# Altium integrated library TI Interface Isolator.IntLib: 140 symbols (part 5 of 6)
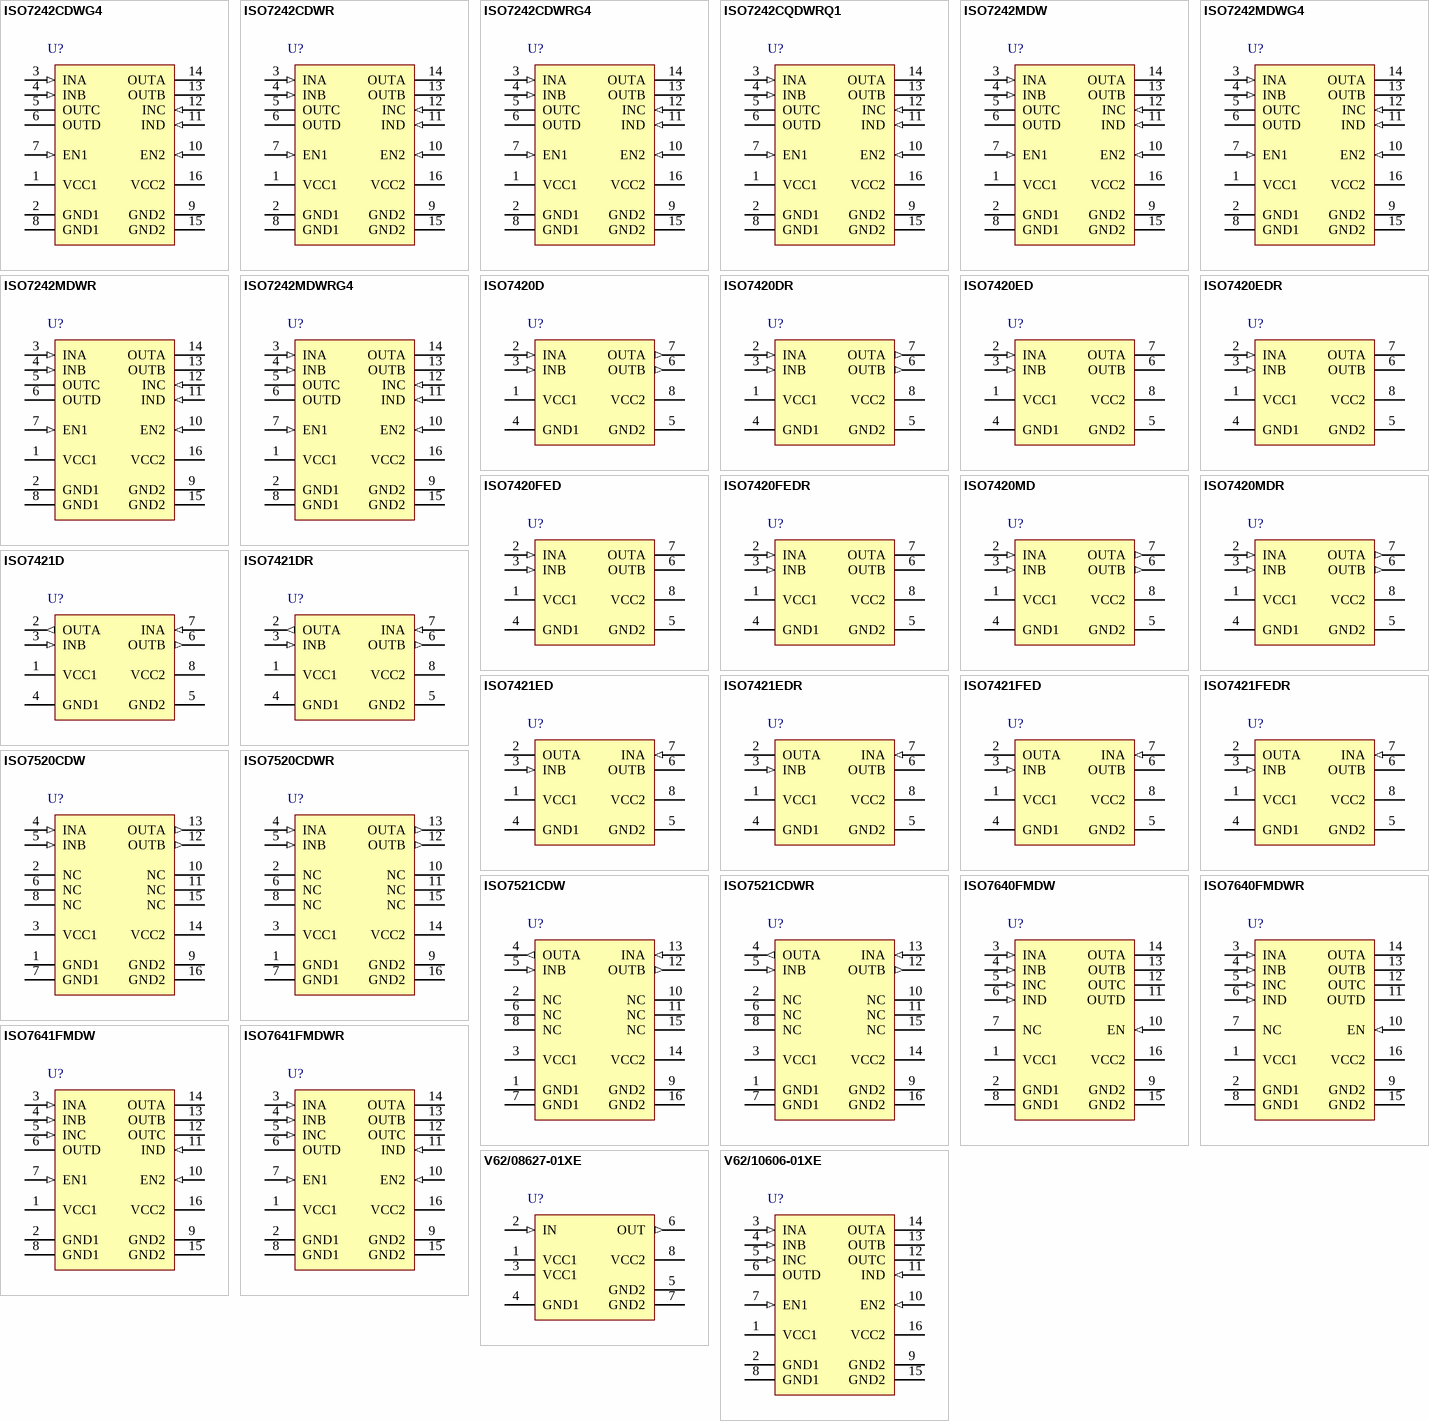
[diagram p7: symbols ISO7242CDWG4 to V62/10606-01XE]

## ISO7242CQDWRQ1
designator U?
25 Mbps Automotive Catalog Quad Channels, 2 / 2, Digital Isolator, -40 to +125 degC, 16-pin SOIC (DW), Green (RoHS & no Sb/Br); Manufacturer: Texas Instruments; PartNumber: ISO7242CQDWRQ1; Datarate(Mbps): 25; Input Noise Filter: Yes; Insulation Rating(VRMS): 2500; Prop Delay(Max)(ns): 42; Supply Voltage(s)(V): 3.3, 5; TTL/CMOS Input Threshold: TTL; DatasheetVersion: SLLSE40A; PackageVersion: 4040000-2/G, 01/2011; PackageReference: DW0016A; PackageDescription: 16-Pin Plastic Small Outline, Body 10.30 x 7.50 mm, Pitch 1.27 mm; Supplier 1: Digi-Key; Supplier Part Number 1: 296-36598-2-ND; Supplier 2: Digi-Key; Supplier Part Number 2: 296-36598-1-ND; Supplier 3: Digi-Key; Supplier Part Number 3: 296-36598-6-ND; Supplier 4: Mouser; Supplier Part Number 4: 595-ISO7242CQDWRQ1; Eco-Plan: Green (RoHS & no Sb/Br); Rating: Automotive; SubFamily: Isolator; Thermal Shutdown: No; MountType: SMT; Code_JEDEC: MS-013; ComponentLink1Description: Manufacturer URL; ComponentLink1URL: http://www.ti.com/; ComponentLink2Description: Datasheet; ComponentLink2URL: http://www.ti.com/general/docs/lit/getliterature.tsp?genericPartNumber=ISO7242C-Q1&fileType=pdf; ComponentLink3Description: Package Specification; ComponentLink3URL: http://www.ti.com/litv/pdf/msoi003g; ComponentLink4Description: SamplesURL; ComponentLink4URL: http://www.ti.com/product/iso7242c-q1#samples
footprint DW0016A_N (SOIC, 16-Leads, Body 10.5x7.6mm, Pitch 1.27mm, IPC Medium Density)
footprint DW0016A_L (SOIC, 16-Leads, Body 10.5x7.6mm, Pitch 1.27mm, IPC High Density)
footprint DW0016A_M (SOIC, 16-Leads, Body 10.5x7.6mm, Pitch 1.27mm, IPC Low Density)
pins: 1 VCC1 (power), 2 GND1 (power), 3 INA (in), 4 INB (in), 5 OUTC (hiz), 6 OUTD (hiz), 7 EN1 (in), 8 GND1 (power), 9 GND2 (power), 10 EN2 (in), 11 IND (in), 12 INC (in), 13 OUTB (hiz), 14 OUTA (hiz), 15 GND2 (power), 16 VCC2 (power)

## ISO7242MDW
designator U?
150 Mbps Quad Channels, 2 / 2, Digital Isolator, -40 to +125 degC, 16-pin SOIC (DW), Green (RoHS & no Sb/Br); Manufacturer: Texas Instruments; PartNumber: ISO7242MDW; Datarate(Mbps): 150; Input Noise Filter: None; Insulation Rating(VRMS): 2500; Prop Delay(Max)(ns): 22; Rating: Catalog; Supply Voltage(s)(V): 3.3, 5; TTL/CMOS Input Threshold: CMOS; DatasheetVersion: SLLS868N; PackageVersion: 4040000-2/G, 01/2011; PackageReference: DW0016A; PackageDescription: 16-Pin Plastic Small Outline, Body 10.30 x 7.50 mm, Pitch 1.27 mm; Supplier 1: Digi-Key; Supplier Part Number 1: 296-22967-5-ND; Supplier 2: Farnell; Supplier Part Number 2: 1755127; Supplier 3: Farnell; Supplier Part Number 3: 1575377; Supplier 4: Newark; Supplier Part Number 4: 73M3163; Supplier 5: Mouser; Supplier Part Number 5: 595-ISO7242MDW; Eco-Plan: Green (RoHS & no Sb/Br); SubFamily: Isolator; Thermal Shutdown: No; MountType: SMT; Code_JEDEC: MS-013; ComponentLink1Description: Manufacturer URL; ComponentLink1URL: http://www.ti.com/; ComponentLink2Description: Datasheet; ComponentLink2URL: http://www.ti.com/general/docs/lit/getliterature.tsp?genericPartNumber=ISO7242M&fileType=pdf; ComponentLink3Description: Package Specification; ComponentLink3URL: http://www.ti.com/litv/pdf/msoi003g; ComponentLink4Description: SamplesURL; ComponentLink4URL: http://www.ti.com/product/iso7242m#samples
footprint DW0016A_N (SOIC, 16-Leads, Body 10.5x7.6mm, Pitch 1.27mm, IPC Medium Density)
footprint DW0016A_L (SOIC, 16-Leads, Body 10.5x7.6mm, Pitch 1.27mm, IPC High Density)
footprint DW0016A_M (SOIC, 16-Leads, Body 10.5x7.6mm, Pitch 1.27mm, IPC Low Density)
pins: 1 VCC1 (power), 2 GND1 (power), 3 INA (in), 4 INB (in), 5 OUTC (hiz), 6 OUTD (hiz), 7 EN1 (in), 8 GND1 (power), 9 GND2 (power), 10 EN2 (in), 11 IND (in), 12 INC (in), 13 OUTB (hiz), 14 OUTA (hiz), 15 GND2 (power), 16 VCC2 (power)

## ISO7242MDWG4
designator U?
150 Mbps Quad Channels, 2 / 2, Digital Isolator, -40 to +125 degC, 16-pin SOIC (DW), Green (RoHS & no Sb/Br); Manufacturer: Texas Instruments; PartNumber: ISO7242MDWG4; Datarate(Mbps): 150; Input Noise Filter: None; Insulation Rating(VRMS): 2500; Prop Delay(Max)(ns): 22; Rating: Catalog; Supply Voltage(s)(V): 3.3, 5; TTL/CMOS Input Threshold: CMOS; DatasheetVersion: SLLS868N; PackageVersion: 4040000-2/G, 01/2011; PackageReference: DW0016A; PackageDescription: 16-Pin Plastic Small Outline, Body 10.30 x 7.50 mm, Pitch 1.27 mm; Supplier 1: Digi-Key; Supplier Part Number 1: ISO7242MDWG4-ND; Supplier 2: Mouser; Supplier Part Number 2: 595-ISO7242MDWG4; Eco-Plan: Green (RoHS & no Sb/Br); SubFamily: Isolator; Thermal Shutdown: No; MountType: SMT; Code_JEDEC: MS-013; ComponentLink1Description: Manufacturer URL; ComponentLink1URL: http://www.ti.com/; ComponentLink2Description: Datasheet; ComponentLink2URL: http://www.ti.com/general/docs/lit/getliterature.tsp?genericPartNumber=ISO7242M&fileType=pdf; ComponentLink3Description: Package Specification; ComponentLink3URL: http://www.ti.com/litv/pdf/msoi003g; ComponentLink4Description: SamplesURL; ComponentLink4URL: http://www.ti.com/product/iso7242m#samples
footprint DW0016A_N (SOIC, 16-Leads, Body 10.5x7.6mm, Pitch 1.27mm, IPC Medium Density)
footprint DW0016A_L (SOIC, 16-Leads, Body 10.5x7.6mm, Pitch 1.27mm, IPC High Density)
footprint DW0016A_M (SOIC, 16-Leads, Body 10.5x7.6mm, Pitch 1.27mm, IPC Low Density)
pins: 1 VCC1 (power), 2 GND1 (power), 3 INA (in), 4 INB (in), 5 OUTC (hiz), 6 OUTD (hiz), 7 EN1 (in), 8 GND1 (power), 9 GND2 (power), 10 EN2 (in), 11 IND (in), 12 INC (in), 13 OUTB (hiz), 14 OUTA (hiz), 15 GND2 (power), 16 VCC2 (power)

## ISO7242MDWR
designator U?
150 Mbps Quad Channels, 2 / 2, Digital Isolator, -40 to +125 degC, 16-pin SOIC (DW), Green (RoHS & no Sb/Br); Manufacturer: Texas Instruments; PartNumber: ISO7242MDWR; Datarate(Mbps): 150; Input Noise Filter: None; Insulation Rating(VRMS): 2500; Prop Delay(Max)(ns): 22; Rating: Catalog; Supply Voltage(s)(V): 3.3, 5; TTL/CMOS Input Threshold: CMOS; DatasheetVersion: SLLS868N; PackageVersion: 4040000-2/G, 01/2011; PackageReference: DW0016A; PackageDescription: 16-Pin Plastic Small Outline, Body 10.30 x 7.50 mm, Pitch 1.27 mm; Supplier 1: Digi-Key; Supplier Part Number 1: ISO7242MDWR-ND; Supplier 2: Newark; Supplier Part Number 2: 73M3164; Supplier 3: Mouser; Supplier Part Number 3: 595-ISO7242MDWR; Eco-Plan: Green (RoHS & no Sb/Br); SubFamily: Isolator; Thermal Shutdown: No; MountType: SMT; Code_JEDEC: MS-013; ComponentLink1Description: Manufacturer URL; ComponentLink1URL: http://www.ti.com/; ComponentLink2Description: Datasheet; ComponentLink2URL: http://www.ti.com/general/docs/lit/getliterature.tsp?genericPartNumber=ISO7242M&fileType=pdf; ComponentLink3Description: Package Specification; ComponentLink3URL: http://www.ti.com/litv/pdf/msoi003g; ComponentLink4Description: SamplesURL; ComponentLink4URL: http://www.ti.com/product/iso7242m#samples
footprint DW0016A_N (SOIC, 16-Leads, Body 10.5x7.6mm, Pitch 1.27mm, IPC Medium Density)
footprint DW0016A_L (SOIC, 16-Leads, Body 10.5x7.6mm, Pitch 1.27mm, IPC High Density)
footprint DW0016A_M (SOIC, 16-Leads, Body 10.5x7.6mm, Pitch 1.27mm, IPC Low Density)
pins: 1 VCC1 (power), 2 GND1 (power), 3 INA (in), 4 INB (in), 5 OUTC (hiz), 6 OUTD (hiz), 7 EN1 (in), 8 GND1 (power), 9 GND2 (power), 10 EN2 (in), 11 IND (in), 12 INC (in), 13 OUTB (hiz), 14 OUTA (hiz), 15 GND2 (power), 16 VCC2 (power)

## ISO7242MDWRG4
designator U?
150 Mbps Quad Channels, 2 / 2, Digital Isolator, -40 to +125 degC, 16-pin SOIC (DW), Green (RoHS & no Sb/Br); Manufacturer: Texas Instruments; PartNumber: ISO7242MDWRG4; Datarate(Mbps): 150; Input Noise Filter: None; Insulation Rating(VRMS): 2500; Prop Delay(Max)(ns): 22; Rating: Catalog; Supply Voltage(s)(V): 3.3, 5; TTL/CMOS Input Threshold: CMOS; DatasheetVersion: SLLS868N; PackageVersion: 4040000-2/G, 01/2011; PackageReference: DW0016A; PackageDescription: 16-Pin Plastic Small Outline, Body 10.30 x 7.50 mm, Pitch 1.27 mm; Supplier 1: Digi-Key; Supplier Part Number 1: ISO7242MDWRG4-ND; Supplier 2: Mouser; Supplier Part Number 2: 595-ISO7242MDWRG4; Eco-Plan: Green (RoHS & no Sb/Br); SubFamily: Isolator; Thermal Shutdown: No; MountType: SMT; Code_JEDEC: MS-013; ComponentLink1Description: Manufacturer URL; ComponentLink1URL: http://www.ti.com/; ComponentLink2Description: Datasheet; ComponentLink2URL: http://www.ti.com/general/docs/lit/getliterature.tsp?genericPartNumber=ISO7242M&fileType=pdf; ComponentLink3Description: Package Specification; ComponentLink3URL: http://www.ti.com/litv/pdf/msoi003g; ComponentLink4Description: SamplesURL; ComponentLink4URL: http://www.ti.com/product/iso7242m#samples
footprint DW0016A_N (SOIC, 16-Leads, Body 10.5x7.6mm, Pitch 1.27mm, IPC Medium Density)
footprint DW0016A_L (SOIC, 16-Leads, Body 10.5x7.6mm, Pitch 1.27mm, IPC High Density)
footprint DW0016A_M (SOIC, 16-Leads, Body 10.5x7.6mm, Pitch 1.27mm, IPC Low Density)
pins: 1 VCC1 (power), 2 GND1 (power), 3 INA (in), 4 INB (in), 5 OUTC (hiz), 6 OUTD (hiz), 7 EN1 (in), 8 GND1 (power), 9 GND2 (power), 10 EN2 (in), 11 IND (in), 12 INC (in), 13 OUTB (hiz), 14 OUTA (hiz), 15 GND2 (power), 16 VCC2 (power)

## ISO7420D
designator U?
1 Mbps Low Power Dual Channels Isolator, 3.3 V / 5 V, -40 to +105 degC, 8-pin SOIC (D), Green (RoHS & no Sb/Br); Manufacturer: Texas Instruments; PartNumber: ISO7420D; Datarate(Mbps): 1; Input Noise Filter: None; Insulation Rating(VRMS): 2500; Prop Delay(Max)(ns): 12; Rating: Catalog; Supply Voltage(s)(V): 3.3, 5; TTL/CMOS Input Threshold: TTL; DatasheetVersion: SLLS984E; PackageVersion: 4040047-3/M, 06/2011; PackageReference: D0008A; PackageDescription: 8-Pin Plastic Small Outline, Body 4.9 x 3.9 mm, Pitch 1.27 mm; Supplier 1: Digi-Key; Supplier Part Number 1: 296-25582-5-ND; Supplier 2: Farnell; Supplier Part Number 2: 1815728; Supplier 3: Newark; Supplier Part Number 3: 60R2413; Supplier 4: Mouser; Supplier Part Number 4: 595-ISO7420D; SubFamily: Isolator; Thermal Shutdown: No; MountType: SMT; Code_JEDEC: MS-012; ComponentLink1Description: Manufacturer URL; ComponentLink1URL: http://www.ti.com/; ComponentLink2Description: Datasheet; ComponentLink2URL: http://www.ti.com/general/docs/lit/getliterature.tsp?genericPartNumber=ISO7420&fileType=pdf; ComponentLink3Description: Package Specification; ComponentLink3URL: http://www.ti.com/litv/pdf/msoi002j; ComponentLink4Description: SamplesURL; ComponentLink4URL: http://www.ti.com/product/iso7420#samples
footprint D0008A_N (SOIC, 8-Leads, Body 5x4mm, Pitch 1.27mm, IPC Medium Density)
footprint D0008A_L (SOIC, 8-Leads, Body 5x4mm, Pitch 1.27mm, IPC High Density)
footprint D0008A_M (SOIC, 8-Leads, Body 5x4mm, Pitch 1.27mm, IPC Low Density)
pins: 1 VCC1 (power) "Power supply, VCC1", 2 INA (in) "Input, channel A", 3 INB (in) "Input, channel B", 4 GND1 (power) "Ground connection for VCC1", 5 GND2 (power) "Ground connection for VCC2", 6 OUTB (out) "Output, channel B", 7 OUTA (out) "Output, channel A", 8 VCC2 (power) "Power supply, VCC2"

## ISO7420DR
designator U?
1 Mbps Low Power Dual Channels Isolator, 3.3 V / 5 V, -40 to +105 degC, 8-pin SOIC (D), Green (RoHS & no Sb/Br); Manufacturer: Texas Instruments; PartNumber: ISO7420DR; Datarate(Mbps): 1; Input Noise Filter: None; Insulation Rating(VRMS): 2500; Prop Delay(Max)(ns): 12; Rating: Catalog; Supply Voltage(s)(V): 3.3, 5; TTL/CMOS Input Threshold: TTL; DatasheetVersion: SLLS984E; PackageVersion: 4040047-3/M, 06/2011; PackageReference: D0008A; PackageDescription: 8-Pin Plastic Small Outline, Body 4.9 x 3.9 mm, Pitch 1.27 mm; Supplier 1: Digi-Key; Supplier Part Number 1: ISO7420DR-ND; Supplier 2: Mouser; Supplier Part Number 2: 595-ISO7420DR; SubFamily: Isolator; Thermal Shutdown: No; MountType: SMT; Code_JEDEC: MS-012; ComponentLink1Description: Manufacturer URL; ComponentLink1URL: http://www.ti.com/; ComponentLink2Description: Datasheet; ComponentLink2URL: http://www.ti.com/general/docs/lit/getliterature.tsp?genericPartNumber=ISO7420&fileType=pdf; ComponentLink3Description: Package Specification; ComponentLink3URL: http://www.ti.com/litv/pdf/msoi002j; ComponentLink4Description: SamplesURL; ComponentLink4URL: http://www.ti.com/product/iso7420#samples
footprint D0008A_N (SOIC, 8-Leads, Body 5x4mm, Pitch 1.27mm, IPC Medium Density)
footprint D0008A_L (SOIC, 8-Leads, Body 5x4mm, Pitch 1.27mm, IPC High Density)
footprint D0008A_M (SOIC, 8-Leads, Body 5x4mm, Pitch 1.27mm, IPC Low Density)
pins: 1 VCC1 (power) "Power supply, VCC1", 2 INA (in) "Input, channel A", 3 INB (in) "Input, channel B", 4 GND1 (power) "Ground connection for VCC1", 5 GND2 (power) "Ground connection for VCC2", 6 OUTB (out) "Output, channel B", 7 OUTA (out) "Output, channel A", 8 VCC2 (power) "Power supply, VCC2"

## ISO7420ED
designator U?
50 Mbps Low-Power Dual Channels Digital Isolator, 3.3 V / 5 V, -40 to +125 degC, 8-pin SOIC (D), Green (RoHS & no Sb/Br); Manufacturer: Texas Instruments; PartNumber: ISO7420ED; Datarate(Mbps): 50; Input Noise Filter: None; Insulation Rating(VRMS): 2500; Prop Delay(Max)(ns): 11; Rating: Catalog; Supply Voltage(s)(V): 3.3, 5; TTL/CMOS Input Threshold: TTL; DatasheetVersion: SLLSE45D; PackageVersion: 4040047-3/M, 06/2011; PackageReference: D0008A; PackageDescription: 8-Pin Plastic Small Outline, Body 4.9 x 3.9 mm, Pitch 1.27 mm; Supplier 1: Digi-Key; Supplier Part Number 1: 296-28554-ND; Supplier 2: Mouser; Supplier Part Number 2: 595-ISO7420ED; SubFamily: Isolator; Thermal Shutdown: No; MountType: SMT; Code_JEDEC: MS-012; ComponentLink1Description: Manufacturer URL; ComponentLink1URL: http://www.ti.com/; ComponentLink2Description: Datasheet; ComponentLink2URL: http://www.ti.com/general/docs/lit/getliterature.tsp?genericPartNumber=ISO7420E&fileType=pdf; ComponentLink3Description: Package Specification; ComponentLink3URL: http://www.ti.com/litv/pdf/msoi002j; ComponentLink4Description: SamplesURL; ComponentLink4URL: http://www.ti.com/product/iso7420e#samples
footprint D0008A_N (SOIC, 8-Leads, Body 5x4mm, Pitch 1.27mm, IPC Medium Density)
footprint D0008A_L (SOIC, 8-Leads, Body 5x4mm, Pitch 1.27mm, IPC High Density)
footprint D0008A_M (SOIC, 8-Leads, Body 5x4mm, Pitch 1.27mm, IPC Low Density)
pins: 1 VCC1 (power) "Power supply, VCC1", 2 INA (in) "Input, channel A", 3 INB (in) "Input, channel B", 4 GND1 (power) "Ground connection for VCC1", 5 GND2 (power) "Ground connection for VCC2", 6 OUTB (hiz) "Output, channel A", 7 OUTA (hiz) "Output, channel B", 8 VCC2 (power) "Power supply, VCC2"

## ISO7420EDR
designator U?
50 Mbps Low-Power Dual Channels Digital Isolator, 3.3 V / 5 V, -40 to +125 degC, 8-pin SOIC (D), Green (RoHS & no Sb/Br); Manufacturer: Texas Instruments; PartNumber: ISO7420EDR; Datarate(Mbps): 50; Input Noise Filter: None; Insulation Rating(VRMS): 2500; Prop Delay(Max)(ns): 11; Rating: Catalog; Supply Voltage(s)(V): 3.3, 5; TTL/CMOS Input Threshold: TTL; DatasheetVersion: SLLSE45D; PackageVersion: 4040047-3/M, 06/2011; PackageReference: D0008A; PackageDescription: 8-Pin Plastic Small Outline, Body 4.9 x 3.9 mm, Pitch 1.27 mm; Supplier 1: Digi-Key; Supplier Part Number 1: ISO7420EDR-ND; Supplier 2: Mouser; Supplier Part Number 2: 595-ISO7420EDR; SubFamily: Isolator; Thermal Shutdown: No; MountType: SMT; Code_JEDEC: MS-012; ComponentLink1Description: Manufacturer URL; ComponentLink1URL: http://www.ti.com/; ComponentLink2Description: Datasheet; ComponentLink2URL: http://www.ti.com/general/docs/lit/getliterature.tsp?genericPartNumber=ISO7420E&fileType=pdf; ComponentLink3Description: Package Specification; ComponentLink3URL: http://www.ti.com/litv/pdf/msoi002j; ComponentLink4Description: SamplesURL; ComponentLink4URL: http://www.ti.com/product/iso7420e#samples
footprint D0008A_N (SOIC, 8-Leads, Body 5x4mm, Pitch 1.27mm, IPC Medium Density)
footprint D0008A_L (SOIC, 8-Leads, Body 5x4mm, Pitch 1.27mm, IPC High Density)
footprint D0008A_M (SOIC, 8-Leads, Body 5x4mm, Pitch 1.27mm, IPC Low Density)
pins: 1 VCC1 (power) "Power supply, VCC1", 2 INA (in) "Input, channel A", 3 INB (in) "Input, channel B", 4 GND1 (power) "Ground connection for VCC1", 5 GND2 (power) "Ground connection for VCC2", 6 OUTB (hiz) "Output, channel A", 7 OUTA (hiz) "Output, channel B", 8 VCC2 (power) "Power supply, VCC2"

## ISO7420FED
designator U?
50 Mbps Low-Power Dual Channels Digital Isolator, 3.3 V / 5 V, -40 to +125 degC, 8-pin SOIC (D), Green (RoHS & no Sb/Br); Manufacturer: Texas Instruments; PartNumber: ISO7420FED; Datarate(Mbps): 50; Input Noise Filter: None; Insulation Rating(VRMS): 2500; Prop Delay(Max)(ns): 11; Rating: Catalog; Supply Voltage(s)(V): 3.3, 5; TTL/CMOS Input Threshold: TTL; DatasheetVersion: SLLSE45D; PackageVersion: 4040047-3/M, 06/2011; PackageReference: D0008A; PackageDescription: 8-Pin Plastic Small Outline, Body 4.9 x 3.9 mm, Pitch 1.27 mm; Supplier 1: Digi-Key; Supplier Part Number 1: 296-28105-5-ND; Supplier 2: Farnell; Supplier Part Number 2: 1863105; Supplier 3: Newark; Supplier Part Number 3: 24T4578; Supplier 4: Mouser; Supplier Part Number 4: 595-ISO7420FED; SubFamily: Isolator; Thermal Shutdown: No; MountType: SMT; Code_JEDEC: MS-012; ComponentLink1Description: Manufacturer URL; ComponentLink1URL: http://www.ti.com/; ComponentLink2Description: Datasheet; ComponentLink2URL: http://www.ti.com/general/docs/lit/getliterature.tsp?genericPartNumber=ISO7420FE&fileType=pdf; ComponentLink3Description: Package Specification; ComponentLink3URL: http://www.ti.com/litv/pdf/msoi002j; ComponentLink4Description: SamplesURL; ComponentLink4URL: http://www.ti.com/product/iso7420fe#samples
footprint D0008A_N (SOIC, 8-Leads, Body 5x4mm, Pitch 1.27mm, IPC Medium Density)
footprint D0008A_L (SOIC, 8-Leads, Body 5x4mm, Pitch 1.27mm, IPC High Density)
footprint D0008A_M (SOIC, 8-Leads, Body 5x4mm, Pitch 1.27mm, IPC Low Density)
pins: 1 VCC1 (power) "Power supply, VCC1", 2 INA (in) "Input, channel A", 3 INB (in) "Input, channel B", 4 GND1 (power) "Ground connection for VCC1", 5 GND2 (power) "Ground connection for VCC2", 6 OUTB (hiz) "Output, channel B", 7 OUTA (hiz) "Output, channel A", 8 VCC2 (power) "Power supply, VCC2"

## ISO7420FEDR
designator U?
50 Mbps Low Power Dual Channels, Digital Isolator, 3.3 V / 5 V, -40 to +125 degC, 8-pin SOIC (D), Green (RoHS & no Sb/Br); Manufacturer: Texas Instruments; PartNumber: ISO7420FEDR; Datarate(Mbps): 50; Input Noise Filter: None; Insulation Rating(VRMS): 2500; Prop Delay(Max)(ns): 11; Rating: Catalog; Supply Voltage(s)(V): 3.3, 5; TTL/CMOS Input Threshold: TTL; DatasheetVersion: SLLSE45D; PackageVersion: 4040047-3/M, 06/2011; PackageReference: D0008A; PackageDescription: 8-Pin Plastic Small Outline, Body 4.9 x 3.9 mm, Pitch 1.27 mm; Supplier 1: Digi-Key; Supplier Part Number 1: 296-28742-2-ND; Supplier 2: Digi-Key; Supplier Part Number 2: 296-28742-1-ND; Supplier 3: Digi-Key; Supplier Part Number 3: 296-28742-6-ND; Supplier 4: Farnell; Supplier Part Number 4: 1972382; Supplier 5: Farnell; Supplier Part Number 5: 1972382RL; Supplier 6: Newark; Supplier Part Number 6: 58T9596; Supplier 7: Mouser; Supplier Part Number 7: 595-ISO7420FEDR; SubFamily: Isolator; Thermal Shutdown: No; MountType: SMT; Code_JEDEC: MS-012; ComponentLink1Description: Manufacturer URL; ComponentLink1URL: http://www.ti.com/; ComponentLink2Description: Datasheet; ComponentLink2URL: http://www.ti.com/general/docs/lit/getliterature.tsp?genericPartNumber=ISO7420FE&fileType=pdf; ComponentLink3Description: Package Specification; ComponentLink3URL: http://www.ti.com/litv/pdf/msoi002j; ComponentLink4Description: SamplesURL; ComponentLink4URL: http://www.ti.com/product/iso7420fe#samples
footprint D0008A_N (SOIC, 8-Leads, Body 5x4mm, Pitch 1.27mm, IPC Medium Density)
footprint D0008A_L (SOIC, 8-Leads, Body 5x4mm, Pitch 1.27mm, IPC High Density)
footprint D0008A_M (SOIC, 8-Leads, Body 5x4mm, Pitch 1.27mm, IPC Low Density)
pins: 1 VCC1 (power) "Power supply, VCC1", 2 INA (in) "Input, channel A", 3 INB (in) "Input, channel B", 4 GND1 (power) "Ground connection for VCC1", 5 GND2 (power) "Ground connection for VCC2", 6 OUTB (hiz) "Output, channel B", 7 OUTA (hiz) "Output, channel A", 8 VCC2 (power) "Power supply, VCC2"

## ISO7420MD
designator U?
1 Mbps Low-Power Dual Channels Isolator, 3.3 V / 5 V, -40 to +125 degC, 8-pin SOIC (D), Green (RoHS & no Sb/Br); Manufacturer: Texas Instruments; PartNumber: ISO7420MD; Datarate(Mbps): 1; Input Noise Filter: None; Insulation Rating(VRMS): 2500; Prop Delay(Max)(ns): 12; Rating: Catalog; Supply Voltage(s)(V): 3.3, 5; TTL/CMOS Input Threshold: TTL; DatasheetVersion: SLLS984E; PackageVersion: 4040047-3/M, 06/2011; PackageReference: D0008A; PackageDescription: 8-Pin Plastic Small Outline, Body 4.9 x 3.9 mm, Pitch 1.27 mm; Supplier 1: Digi-Key; Supplier Part Number 1: 296-25583-5-ND; Supplier 2: Farnell; Supplier Part Number 2: 1815729; Supplier 3: Newark; Supplier Part Number 3: 23T0960; Supplier 4: Newark; Supplier Part Number 4: 60R2414; Supplier 5: Mouser; Supplier Part Number 5: 595-ISO7420MD; SubFamily: Isolator; Thermal Shutdown: No; MountType: SMT; Code_JEDEC: MS-012; ComponentLink1Description: Manufacturer URL; ComponentLink1URL: http://www.ti.com/; ComponentLink2Description: Datasheet; ComponentLink2URL: http://www.ti.com/general/docs/lit/getliterature.tsp?genericPartNumber=ISO7420M&fileType=pdf; ComponentLink3Description: Package Specification; ComponentLink3URL: http://www.ti.com/litv/pdf/msoi002j; ComponentLink4Description: SamplesURL; ComponentLink4URL: http://www.ti.com/product/iso7420m#samples
footprint D0008A_N (SOIC, 8-Leads, Body 5x4mm, Pitch 1.27mm, IPC Medium Density)
footprint D0008A_L (SOIC, 8-Leads, Body 5x4mm, Pitch 1.27mm, IPC High Density)
footprint D0008A_M (SOIC, 8-Leads, Body 5x4mm, Pitch 1.27mm, IPC Low Density)
pins: 1 VCC1 (power) "Power supply, VCC1", 2 INA (in) "Input, channel A", 3 INB (in) "Input, channel B", 4 GND1 (power) "Ground connection for VCC1", 5 GND2 (power) "Ground connection for VCC2", 6 OUTB (out) "Output, channel B", 7 OUTA (out) "Output, channel A", 8 VCC2 (power) "Power supply, VCC2"

## ISO7420MDR
designator U?
1 Mbps Low-Power Dual Channels Isolator, 3.3 V / 5 V, -40 to +125 degC, 8-pin SOIC (D), Green (RoHS & no Sb/Br); Manufacturer: Texas Instruments; PartNumber: ISO7420MDR; Datarate(Mbps): 1; Input Noise Filter: None; Insulation Rating(VRMS): 2500; Prop Delay(Max)(ns): 12; Rating: Catalog; Supply Voltage(s)(V): 3.3, 5; TTL/CMOS Input Threshold: TTL; DatasheetVersion: SLLS984E; PackageVersion: 4040047-3/M, 06/2011; PackageReference: D0008A; PackageDescription: 8-Pin Plastic Small Outline, Body 4.9 x 3.9 mm, Pitch 1.27 mm; Supplier 1: Digi-Key; Supplier Part Number 1: ISO7420MDR-ND; Supplier 2: Newark; Supplier Part Number 2: 63R9918; Supplier 3: Mouser; Supplier Part Number 3: 595-ISO7420MDR; SubFamily: Isolator; Thermal Shutdown: No; MountType: SMT; Code_JEDEC: MS-012; ComponentLink1Description: Manufacturer URL; ComponentLink1URL: http://www.ti.com/; ComponentLink2Description: Datasheet; ComponentLink2URL: http://www.ti.com/general/docs/lit/getliterature.tsp?genericPartNumber=ISO7420M&fileType=pdf; ComponentLink3Description: Package Specification; ComponentLink3URL: http://www.ti.com/litv/pdf/msoi002j; ComponentLink4Description: SamplesURL; ComponentLink4URL: http://www.ti.com/product/iso7420m#samples
footprint D0008A_N (SOIC, 8-Leads, Body 5x4mm, Pitch 1.27mm, IPC Medium Density)
footprint D0008A_L (SOIC, 8-Leads, Body 5x4mm, Pitch 1.27mm, IPC High Density)
footprint D0008A_M (SOIC, 8-Leads, Body 5x4mm, Pitch 1.27mm, IPC Low Density)
pins: 1 VCC1 (power) "Power supply, VCC1", 2 INA (in) "Input, channel A", 3 INB (in) "Input, channel B", 4 GND1 (power) "Ground connection for VCC1", 5 GND2 (power) "Ground connection for VCC2", 6 OUTB (out) "Output, channel B", 7 OUTA (out) "Output, channel A", 8 VCC2 (power) "Power supply, VCC2"

## ISO7421D
designator U?
1 Mbps Dual Channels, 1 / 1, Digital Isolator, 3.3 V / 5 V, -40 to +105 degC, 8-pin SOIC (D), Green (RoHS & no Sb/Br); Manufacturer: Texas Instruments; PartNumber: ISO7421D; Datarate(Mbps): 1; Input Noise Filter: None; Insulation Rating(VRMS): 2500; Prop Delay(Max)(ns): 12; Rating: Catalog; Supply Voltage(s)(V): 3.3, 5; TTL/CMOS Input Threshold: TTL; DatasheetVersion: SLLS984E; PackageVersion: 4040047-3/M, 06/2011; PackageReference: D0008A; PackageDescription: 8-Pin Plastic Small Outline, Body 4.9 x 3.9 mm, Pitch 1.27 mm; Supplier 1: Digi-Key; Supplier Part Number 1: 296-25187-5-ND; Supplier 2: Farnell; Supplier Part Number 2: 2335668; Supplier 3: Newark; Supplier Part Number 3: 96W6898; Supplier 4: Newark; Supplier Part Number 4: 33R2484; Supplier 5: Mouser; Supplier Part Number 5: 595-ISO7421D; SubFamily: Isolator; Thermal Shutdown: No; MountType: SMT; Code_JEDEC: MS-012; ComponentLink1Description: Manufacturer URL; ComponentLink1URL: http://www.ti.com/; ComponentLink2Description: Datasheet; ComponentLink2URL: http://www.ti.com/general/docs/lit/getliterature.tsp?genericPartNumber=ISO7421&fileType=pdf; ComponentLink3Description: Package Specification; ComponentLink3URL: http://www.ti.com/litv/pdf/msoi002j; ComponentLink4Description: SamplesURL; ComponentLink4URL: http://www.ti.com/product/iso7421#samples
footprint D0008A_N (SOIC, 8-Leads, Body 5x4mm, Pitch 1.27mm, IPC Medium Density)
footprint D0008A_L (SOIC, 8-Leads, Body 5x4mm, Pitch 1.27mm, IPC High Density)
footprint D0008A_M (SOIC, 8-Leads, Body 5x4mm, Pitch 1.27mm, IPC Low Density)
pins: 1 VCC1 (power) "Power supply, VCC1", 2 OUTA (out) "Output, channel A", 3 INB (in) "Input, channel B", 4 GND1 (power) "Ground connection for VCC1", 5 GND2 (power) "Ground connection for VCC2", 6 OUTB (out) "Output, channel B", 7 INA (in) "Input, channel A", 8 VCC2 (power) "Power supply, VCC2"

## ISO7421DR
designator U?
1 Mbps Dual Channels, 1 / 1, Digital Isolator, 3.3 V / 5 V, -40 to +105 degC, 8-pin SOIC (D), Green (RoHS & no Sb/Br); Manufacturer: Texas Instruments; PartNumber: ISO7421DR; Datarate(Mbps): 1; Input Noise Filter: None; Insulation Rating(VRMS): 2500; Prop Delay(Max)(ns): 12; Rating: Catalog; Supply Voltage(s)(V): 3.3, 5; TTL/CMOS Input Threshold: TTL; DatasheetVersion: SLLS984E; PackageVersion: 4040047-3/M, 06/2011; PackageReference: D0008A; PackageDescription: 8-Pin Plastic Small Outline, Body 4.9 x 3.9 mm, Pitch 1.27 mm; Supplier 1: Digi-Key; Supplier Part Number 1: ISO7421DR-ND; Supplier 2: Newark; Supplier Part Number 2: 50R7698; Supplier 3: Mouser; Supplier Part Number 3: 595-ISO7421DR; SubFamily: Isolator; Thermal Shutdown: No; MountType: SMT; Code_JEDEC: MS-012; ComponentLink1Description: Manufacturer URL; ComponentLink1URL: http://www.ti.com/; ComponentLink2Description: Datasheet; ComponentLink2URL: http://www.ti.com/general/docs/lit/getliterature.tsp?genericPartNumber=ISO7421&fileType=pdf; ComponentLink3Description: Package Specification; ComponentLink3URL: http://www.ti.com/litv/pdf/msoi002j; ComponentLink4Description: SamplesURL; ComponentLink4URL: http://www.ti.com/product/iso7421#samples
footprint D0008A_N (SOIC, 8-Leads, Body 5x4mm, Pitch 1.27mm, IPC Medium Density)
footprint D0008A_L (SOIC, 8-Leads, Body 5x4mm, Pitch 1.27mm, IPC High Density)
footprint D0008A_M (SOIC, 8-Leads, Body 5x4mm, Pitch 1.27mm, IPC Low Density)
pins: 1 VCC1 (power) "Power supply, VCC1", 2 OUTA (out) "Output, channel A", 3 INB (in) "Input, channel B", 4 GND1 (power) "Ground connection for VCC1", 5 GND2 (power) "Ground connection for VCC2", 6 OUTB (out) "Output, channel B", 7 INA (in) "Input, channel A", 8 VCC2 (power) "Power supply, VCC2"

## ISO7421ED
designator U?
50 Mbps Low-Power Dual Channels Digital Isolator, 3.3 V / 5 V, -40 to +125 degC, 8-pin SOIC (D), Green (RoHS & no Sb/Br); Manufacturer: Texas Instruments; PartNumber: ISO7421ED; Datarate(Mbps): 50; Input Noise Filter: None; Insulation Rating(VRMS): 2500; Prop Delay(Max)(ns): 11; Rating: Catalog; Supply Voltage(s)(V): 3.3, 5; TTL/CMOS Input Threshold: TTL; DatasheetVersion: SLLSE45D; PackageVersion: 4040047-3/M, 06/2011; PackageReference: D0008A; PackageDescription: 8-Pin Plastic Small Outline, Body 4.9 x 3.9 mm, Pitch 1.27 mm; Supplier 1: Digi-Key; Supplier Part Number 1: 296-28425-ND; Supplier 2: Mouser; Supplier Part Number 2: 595-ISO7421ED; SubFamily: Isolator; Thermal Shutdown: No; MountType: SMT; Code_JEDEC: MS-012; ComponentLink1Description: Manufacturer URL; ComponentLink1URL: http://www.ti.com/; ComponentLink2Description: Datasheet; ComponentLink2URL: http://www.ti.com/general/docs/lit/getliterature.tsp?genericPartNumber=ISO7421E&fileType=pdf; ComponentLink3Description: Package Specification; ComponentLink3URL: http://www.ti.com/litv/pdf/msoi002j; ComponentLink4Description: SamplesURL; ComponentLink4URL: http://www.ti.com/product/iso7421e#samples
footprint D0008A_N (SOIC, 8-Leads, Body 5x4mm, Pitch 1.27mm, IPC Medium Density)
footprint D0008A_L (SOIC, 8-Leads, Body 5x4mm, Pitch 1.27mm, IPC High Density)
footprint D0008A_M (SOIC, 8-Leads, Body 5x4mm, Pitch 1.27mm, IPC Low Density)
pins: 1 VCC1 (power) "Power supply, VCC1", 2 OUTA (hiz) "Output, channel A", 3 INB (in) "Input, channel B", 4 GND1 (power) "Ground connection for VCC1", 5 GND2 (power) "Ground connection for VCC2", 6 OUTB (hiz) "Output, channel B", 7 INA (in) "Input, channel A", 8 VCC2 (power) "Power supply, VCC2"

## ISO7421EDR
designator U?
50 Mbps Low-Power Dual Channels Digital Isolator, 3.3 V / 5 V, -40 to +125 degC, 8-pin SOIC (D), Green (RoHS & no Sb/Br); Manufacturer: Texas Instruments; PartNumber: ISO7421EDR; Datarate(Mbps): 50; Input Noise Filter: None; Insulation Rating(VRMS): 2500; Prop Delay(Max)(ns): 11; Rating: Catalog; Supply Voltage(s)(V): 3.3, 5; TTL/CMOS Input Threshold: TTL; DatasheetVersion: SLLSE45D; PackageVersion: 4040047-3/M, 06/2011; PackageReference: D0008A; PackageDescription: 8-Pin Plastic Small Outline, Body 4.9 x 3.9 mm, Pitch 1.27 mm; Supplier 1: Digi-Key; Supplier Part Number 1: ISO7421EDR-ND; Supplier 2: Newark; Supplier Part Number 2: 40T4831; Supplier 3: Mouser; Supplier Part Number 3: 595-ISO7421EDR; SubFamily: Isolator; Thermal Shutdown: No; MountType: SMT; Code_JEDEC: MS-012; ComponentLink1Description: Manufacturer URL; ComponentLink1URL: http://www.ti.com/; ComponentLink2Description: Datasheet; ComponentLink2URL: http://www.ti.com/general/docs/lit/getliterature.tsp?genericPartNumber=ISO7421E&fileType=pdf; ComponentLink3Description: Package Specification; ComponentLink3URL: http://www.ti.com/litv/pdf/msoi002j; ComponentLink4Description: SamplesURL; ComponentLink4URL: http://www.ti.com/product/iso7421e#samples
footprint D0008A_N (SOIC, 8-Leads, Body 5x4mm, Pitch 1.27mm, IPC Medium Density)
footprint D0008A_L (SOIC, 8-Leads, Body 5x4mm, Pitch 1.27mm, IPC High Density)
footprint D0008A_M (SOIC, 8-Leads, Body 5x4mm, Pitch 1.27mm, IPC Low Density)
pins: 1 VCC1 (power) "Power supply, VCC1", 2 OUTA (hiz) "Output, channel A", 3 INB (in) "Input, channel B", 4 GND1 (power) "Ground connection for VCC1", 5 GND2 (power) "Ground connection for VCC2", 6 OUTB (hiz) "Output, channel B", 7 INA (in) "Input, channel A", 8 VCC2 (power) "Power supply, VCC2"

## ISO7421FED
designator U?
50 Mbps Low-Power Dual Channels Digital Isolator, 3.3 V / 5 V, -40 to +125 degC, 8-pin SOIC (D), Green (RoHS & no Sb/Br); Manufacturer: Texas Instruments; PartNumber: ISO7421FED; Datarate(Mbps): 50; Input Noise Filter: None; Insulation Rating(VRMS): 2500; Prop Delay(Max)(ns): 11; Rating: Catalog; Supply Voltage(s)(V): 3.3, 5; TTL/CMOS Input Threshold: TTL; DatasheetVersion: SLLSE45D; PackageVersion: 4040047-3/M, 06/2011; PackageReference: D0008A; PackageDescription: 8-Pin Plastic Small Outline, Body 4.9 x 3.9 mm, Pitch 1.27 mm; Supplier 1: Digi-Key; Supplier Part Number 1: 296-28426-ND; Supplier 2: Newark; Supplier Part Number 2: 40T4832; Supplier 3: Mouser; Supplier Part Number 3: 595-ISO7421FED; SubFamily: Isolator; Thermal Shutdown: No; MountType: SMT; Code_JEDEC: MS-012; ComponentLink1Description: Manufacturer URL; ComponentLink1URL: http://www.ti.com/; ComponentLink2Description: Datasheet; ComponentLink2URL: http://www.ti.com/general/docs/lit/getliterature.tsp?genericPartNumber=ISO7421FE&fileType=pdf; ComponentLink3Description: Package Specification; ComponentLink3URL: http://www.ti.com/litv/pdf/msoi002j; ComponentLink4Description: SamplesURL; ComponentLink4URL: http://www.ti.com/product/iso7421fe#samples
footprint D0008A_N (SOIC, 8-Leads, Body 5x4mm, Pitch 1.27mm, IPC Medium Density)
footprint D0008A_L (SOIC, 8-Leads, Body 5x4mm, Pitch 1.27mm, IPC High Density)
footprint D0008A_M (SOIC, 8-Leads, Body 5x4mm, Pitch 1.27mm, IPC Low Density)
pins: 1 VCC1 (power) "Power supply, VCC1", 2 OUTA (hiz) "Output, channel A", 3 INB (in) "Input, channel B", 4 GND1 (power) "Ground connection for VCC1", 5 GND2 (power) "Ground connection for VCC2", 6 OUTB (hiz) "Output, channel B", 7 INA (in) "Input, channel A", 8 VCC2 (power) "Power supply, VCC2"

## ISO7421FEDR
designator U?
50 Mbps Low-Power Dual Channels Digital Isolator, 3.3 V / 5 V, -40 to +125 degC, 8-pin SOIC (D), Green (RoHS & no Sb/Br); Manufacturer: Texas Instruments; PartNumber: ISO7421FEDR; Datarate(Mbps): 50; Input Noise Filter: None; Insulation Rating(VRMS): 2500; Prop Delay(Max)(ns): 11; Rating: Catalog; Supply Voltage(s)(V): 3.3, 5; TTL/CMOS Input Threshold: TTL; DatasheetVersion: SLLSE45D; PackageVersion: 4040047-3/M, 06/2011; PackageReference: D0008A; PackageDescription: 8-Pin Plastic Small Outline, Body 4.9 x 3.9 mm, Pitch 1.27 mm; Supplier 1: Digi-Key; Supplier Part Number 1: ISO7421FEDR-ND; Supplier 2: Newark; Supplier Part Number 2: 40T4833; Supplier 3: Mouser; Supplier Part Number 3: 595-ISO7421FEDR; SubFamily: Isolator; Thermal Shutdown: No; MountType: SMT; Code_JEDEC: MS-012; ComponentLink1Description: Manufacturer URL; ComponentLink1URL: http://www.ti.com/; ComponentLink2Description: Datasheet; ComponentLink2URL: http://www.ti.com/general/docs/lit/getliterature.tsp?genericPartNumber=ISO7421FE&fileType=pdf; ComponentLink3Description: Package Specification; ComponentLink3URL: http://www.ti.com/litv/pdf/msoi002j; ComponentLink4Description: SamplesURL; ComponentLink4URL: http://www.ti.com/product/iso7421fe#samples
footprint D0008A_N (SOIC, 8-Leads, Body 5x4mm, Pitch 1.27mm, IPC Medium Density)
footprint D0008A_L (SOIC, 8-Leads, Body 5x4mm, Pitch 1.27mm, IPC High Density)
footprint D0008A_M (SOIC, 8-Leads, Body 5x4mm, Pitch 1.27mm, IPC Low Density)
pins: 1 VCC1 (power) "Power supply, VCC1", 2 OUTA (hiz) "Output, channel A", 3 INB (in) "Input, channel B", 4 GND1 (power) "Ground connection for VCC1", 5 GND2 (power) "Ground connection for VCC2", 6 OUTB (hiz) "Output, channel B", 7 INA (in) "Input, channel A", 8 VCC2 (power) "Power supply, VCC2"

## ISO7520CDW
designator U?
1 Mbps 5 KVrms Low Power Dual Digital Isolator, 3.3 V / 5 V, -40 to +105 degC, 16-pin SOIC (DW), Green (RoHS & no Sb/Br); Manufacturer: Texas Instruments; PartNumber: ISO7520CDW; Datarate(Mbps): 1; Input Noise Filter: None; Insulation Rating(VRMS): 5000; Prop Delay(Max)(ns): 14; Rating: Catalog; Supply Voltage(s)(V): 3.3, 5; TTL/CMOS Input Threshold: TTL; DatasheetVersion: SLLSE39C; PackageVersion: 4040000-2/G, 01/2011; PackageReference: DW0016A; PackageDescription: 16-Pin Plastic Small Outline, Body 10.30 x 7.50 mm, Pitch 1.27 mm; Supplier 1: Digi-Key; Supplier Part Number 1: 296-27635-5-ND; Supplier 2: Mouser; Supplier Part Number 2: 595-ISO7520CDW; SubFamily: Isolator; Thermal Shutdown: No; MountType: SMT; Code_JEDEC: MS-013; ComponentLink1Description: Manufacturer URL; ComponentLink1URL: http://www.ti.com/; ComponentLink2Description: Datasheet; ComponentLink2URL: http://www.ti.com/general/docs/lit/getliterature.tsp?genericPartNumber=ISO7520C&fileType=pdf; ComponentLink3Description: Package Specification; ComponentLink3URL: http://www.ti.com/litv/pdf/msoi003g; ComponentLink4Description: SamplesURL; ComponentLink4URL: http://www.ti.com/product/iso7520c#samples
footprint DW0016A_N (SOIC, 16-Leads, Body 10.5x7.6mm, Pitch 1.27mm, IPC Medium Density)
footprint DW0016A_L (SOIC, 16-Leads, Body 10.5x7.6mm, Pitch 1.27mm, IPC High Density)
footprint DW0016A_M (SOIC, 16-Leads, Body 10.5x7.6mm, Pitch 1.27mm, IPC Low Density)
pins: 1 GND1 (power) "Ground connection for VCC1", 2 NC "No Connect Pin", 3 VCC1 (power) "Power supply, VCC1", 4 INA (in) "Input, channel A", 5 INB (in) "Input, channel B", 6 NC "No Connect Pin", 7 GND1 (power) "Ground connection for VCC1", 8 NC "No Connect Pin", 9 GND2 (power) "Ground connection for VCC2", 10 NC "No Connect Pin", 11 NC "No Connect Pin", 12 OUTB (out) "Output, channel B", 13 OUTA (out) "Output, channel A", 14 VCC2 (power) "Power supply, VCC2", 15 NC "No Connect Pin", 16 GND2 (power) "Ground connection for VCC2"

## ISO7520CDWR
designator U?
1 Mbps 5 KVrms Low Power Dual Digital Isolator, 3.3 V / 5 V, -40 to +105 degC, 16-pin SOIC (DW), Green (RoHS & no Sb/Br); Manufacturer: Texas Instruments; PartNumber: ISO7520CDWR; Datarate(Mbps): 1; Input Noise Filter: None; Insulation Rating(VRMS): 5000; Prop Delay(Max)(ns): 14; Rating: Catalog; Supply Voltage(s)(V): 3.3, 5; TTL/CMOS Input Threshold: TTL; DatasheetVersion: SLLSE39C; PackageVersion: 4040000-2/G, 01/2011; PackageReference: DW0016A; PackageDescription: 16-Pin Plastic Small Outline, Body 10.30 x 7.50 mm, Pitch 1.27 mm; Supplier 1: Digi-Key; Supplier Part Number 1: 296-27756-2-ND; Supplier 2: Digi-Key; Supplier Part Number 2: 296-27756-1-ND; Supplier 3: Digi-Key; Supplier Part Number 3: 296-27756-6-ND; Supplier 4: Farnell; Supplier Part Number 4: 1863103; Supplier 5: Newark; Supplier Part Number 5: 39T4541; Supplier 6: Newark; Supplier Part Number 6: 84R8219; Supplier 7: Mouser; Supplier Part Number 7: 595-ISO7520CDWR; SubFamily: Isolator; Thermal Shutdown: No; MountType: SMT; Code_JEDEC: MS-013; ComponentLink1Description: Manufacturer URL; ComponentLink1URL: http://www.ti.com/; ComponentLink2Description: Datasheet; ComponentLink2URL: http://www.ti.com/general/docs/lit/getliterature.tsp?genericPartNumber=ISO7520C&fileType=pdf; ComponentLink3Description: Package Specification; ComponentLink3URL: http://www.ti.com/litv/pdf/msoi003g; ComponentLink4Description: SamplesURL; ComponentLink4URL: http://www.ti.com/product/iso7520c#samples
footprint DW0016A_N (SOIC, 16-Leads, Body 10.5x7.6mm, Pitch 1.27mm, IPC Medium Density)
footprint DW0016A_L (SOIC, 16-Leads, Body 10.5x7.6mm, Pitch 1.27mm, IPC High Density)
footprint DW0016A_M (SOIC, 16-Leads, Body 10.5x7.6mm, Pitch 1.27mm, IPC Low Density)
pins: 1 GND1 (power) "Ground connection for VCC1", 2 NC "No Connect Pin", 3 VCC1 (power) "Power supply, VCC1", 4 INA (in) "Input, channel A", 5 INB (in) "Input, channel B", 6 NC "No Connect Pin", 7 GND1 (power) "Ground connection for VCC1", 8 NC "No Connect Pin", 9 GND2 (power) "Ground connection for VCC2", 10 NC "No Connect Pin", 11 NC "No Connect Pin", 12 OUTB (out) "Output, channel B", 13 OUTA (out) "Output, channel A", 14 VCC2 (power) "Power supply, VCC2", 15 NC "No Connect Pin", 16 GND2 (power) "Ground connection for VCC2"

## ISO7521CDW
designator U?
1 Mbps Low-Power 5 KVrms Dual Digital Isolator, 3.3 V / 5 V, -40 to +105 degC, 16-pin SOIC (DW), Green (RoHS & no Sb/Br); Manufacturer: Texas Instruments; PartNumber: ISO7521CDW; Datarate(Mbps): 1; Input Noise Filter: None; Insulation Rating(VRMS): 5000; Prop Delay(Max)(ns): 14; Rating: Catalog; Supply Voltage(s)(V): 3.3, 5; TTL/CMOS Input Threshold: TTL; DatasheetVersion: SLLSE39C; PackageVersion: 4040000-2/G, 01/2011; PackageReference: DW0016A; PackageDescription: 16-Pin Plastic Small Outline, Body 10.30 x 7.50 mm, Pitch 1.27 mm; Supplier 1: Digi-Key; Supplier Part Number 1: 296-27636-5-ND; Supplier 2: Newark; Supplier Part Number 2: 79R8080; Supplier 3: Mouser; Supplier Part Number 3: 595-ISO7521CDW; SubFamily: Isolator; Thermal Shutdown: No; MountType: SMT; Code_JEDEC: MS-013; ComponentLink1Description: Manufacturer URL; ComponentLink1URL: http://www.ti.com/; ComponentLink2Description: Datasheet; ComponentLink2URL: http://www.ti.com/general/docs/lit/getliterature.tsp?genericPartNumber=ISO7521C&fileType=pdf; ComponentLink3Description: Package Specification; ComponentLink3URL: http://www.ti.com/litv/pdf/msoi003g; ComponentLink4Description: SamplesURL; ComponentLink4URL: http://www.ti.com/product/iso7521c#samples
footprint DW0016A_N (SOIC, 16-Leads, Body 10.5x7.6mm, Pitch 1.27mm, IPC Medium Density)
footprint DW0016A_L (SOIC, 16-Leads, Body 10.5x7.6mm, Pitch 1.27mm, IPC High Density)
footprint DW0016A_M (SOIC, 16-Leads, Body 10.5x7.6mm, Pitch 1.27mm, IPC Low Density)
pins: 1 GND1 (power) "Ground connection for VCC1", 2 NC "No Connect Pin", 3 VCC1 (power) "Power supply, VCC1", 4 OUTA (out) "Output, channel A", 5 INB (in) "Input, channel B", 6 NC "No Connect Pin", 7 GND1 (power) "Ground connection for VCC1", 8 NC "No Connect Pin", 9 GND2 (power) "Ground connection for VCC2", 10 NC "No Connect Pin", 11 NC "No Connect Pin", 12 OUTB (out) "Output, channel B", 13 INA (in) "Input, channel A", 14 VCC2 (power) "Power supply, VCC2", 15 NC "No Connect Pin", 16 GND2 (power) "Ground connection for VCC2"

## ISO7521CDWR
designator U?
1 Mbps Low-Power 5 KVrms Dual Digital Isolator, 3.3 V / 5 V, -40 to +105 degC, 16-pin SOIC (DW), Green (RoHS & no Sb/Br); Manufacturer: Texas Instruments; PartNumber: ISO7521CDWR; Datarate(Mbps): 1; Input Noise Filter: None; Insulation Rating(VRMS): 5000; Prop Delay(Max)(ns): 14; Rating: Catalog; Supply Voltage(s)(V): 3.3, 5; TTL/CMOS Input Threshold: TTL; DatasheetVersion: SLLSE39C; PackageVersion: 4040000-2/G, 01/2011; PackageReference: DW0016A; PackageDescription: 16-Pin Plastic Small Outline, Body 10.30 x 7.50 mm, Pitch 1.27 mm; Supplier 1: Digi-Key; Supplier Part Number 1: 296-27757-2-ND; Supplier 2: Digi-Key; Supplier Part Number 2: 296-27757-1-ND; Supplier 3: Digi-Key; Supplier Part Number 3: 296-27757-6-ND; Supplier 4: Farnell; Supplier Part Number 4: 1863104; Supplier 5: Farnell; Supplier Part Number 5: 1863104RL; Supplier 6: Newark; Supplier Part Number 6: 39T4542; Supplier 7: Newark; Supplier Part Number 7: 79R8081; Supplier 8: Newark; Supplier Part Number 8: 84R8220; Supplier 9: Mouser; Supplier Part Number 9: 595-ISO7521CDWR; SubFamily: Isolator; Thermal Shutdown: No; MountType: SMT; Code_JEDEC: MS-013; ComponentLink1Description: Manufacturer URL; ComponentLink1URL: http://www.ti.com/; ComponentLink2Description: Datasheet; ComponentLink2URL: http://www.ti.com/general/docs/lit/getliterature.tsp?genericPartNumber=ISO7521C&fileType=pdf; ComponentLink3Description: Package Specification; ComponentLink3URL: http://www.ti.com/litv/pdf/msoi003g; ComponentLink4Description: SamplesURL; ComponentLink4URL: http://www.ti.com/product/iso7521c#samples
footprint DW0016A_N (SOIC, 16-Leads, Body 10.5x7.6mm, Pitch 1.27mm, IPC Medium Density)
footprint DW0016A_L (SOIC, 16-Leads, Body 10.5x7.6mm, Pitch 1.27mm, IPC High Density)
footprint DW0016A_M (SOIC, 16-Leads, Body 10.5x7.6mm, Pitch 1.27mm, IPC Low Density)
pins: 1 GND1 (power) "Ground connection for VCC1", 2 NC "No Connect Pin", 3 VCC1 (power) "Power supply, VCC1", 4 OUTA (out) "Output, channel A", 5 INB (in) "Input, channel B", 6 NC "No Connect Pin", 7 GND1 (power) "Ground connection for VCC1", 8 NC "No Connect Pin", 9 GND2 (power) "Ground connection for VCC2", 10 NC "No Connect Pin", 11 NC "No Connect Pin", 12 OUTB (out) "Output, channel B", 13 INA (in) "Input, channel A", 14 VCC2 (power) "Power supply, VCC2", 15 NC "No Connect Pin", 16 GND2 (power) "Ground connection for VCC2"

## ISO7640FMDW
designator U?
150 Mbps 6 kVpk Low Power Quad Channels, Digital Isolator, 2.7 V / 3.3 V / 5 V, -40 to +125 degC, 16-pin SOIC (DW), Green (RoHS & no Sb/Br); Manufacturer: Texas Instruments; PartNumber: ISO7640FMDW; Datarate(Mbps): 150; Input Noise Filter: None; Insulation Rating(VRMS): 5000; Prop Delay(Max)(ns): 10.5; Rating: Catalog; Supply Voltage(s)(V): 2.7, 3.3, 5; TTL/CMOS Input Threshold: TTL; DatasheetVersion: SLLSE89C; PackageVersion: 4040000-2/G, 01/2011; PackageReference: DW0016A; PackageDescription: 16-Pin Plastic Small Outline, Body 10.30 x 7.50 mm, Pitch 1.27 mm; Supplier 1: Digi-Key; Supplier Part Number 1: 296-29703-5-ND; Supplier 2: Farnell; Supplier Part Number 2: 2335671; Supplier 3: Newark; Supplier Part Number 3: 70T7539; Supplier 4: Mouser; Supplier Part Number 4: 595-ISO7640FMDW; Eco-Plan: Green (RoHS & no Sb/Br); Fail Safe: Low; SubFamily: Isolator; Thermal Shutdown: No; MountType: SMT; Code_JEDEC: MS-013; ComponentLink1Description: Manufacturer URL; ComponentLink1URL: http://www.ti.com/; ComponentLink2Description: Datasheet; ComponentLink2URL: http://www.ti.com/general/docs/lit/getliterature.tsp?genericPartNumber=ISO7640FM&fileType=pdf; ComponentLink3Description: Package Specification; ComponentLink3URL: http://www.ti.com/litv/pdf/msoi003g; ComponentLink4Description: SamplesURL; ComponentLink4URL: http://www.ti.com/product/iso7640fm#samples
footprint DW0016A_N (SOIC, 16-Leads, Body 10.5x7.6mm, Pitch 1.27mm, IPC Medium Density)
footprint DW0016A_L (SOIC, 16-Leads, Body 10.5x7.6mm, Pitch 1.27mm, IPC High Density)
footprint DW0016A_M (SOIC, 16-Leads, Body 10.5x7.6mm, Pitch 1.27mm, IPC Low Density)
pins: 1 VCC1 (power) "Power supply, VCC1", 2 GND1 (power) "Ground connection for VCC1", 3 INA (in) "Input, channel A", 4 INB (in) "Input, channel B", 5 INC (in) "Input, channel C", 6 IND (in) "Input, channel D", 7 NC "No Connect pins are floating with no internal connection", 8 GND1 (power) "Ground connection for VCC1", 9 GND2 (power) "Ground connection for VCC2", 10 EN (in) "Enables(when input is High or Open)or Disables(when input is Low) OUTA,OUTB,OUTC and OUTD of ISO7640", 11 OUTD (hiz) "Output, channel D", 12 OUTC (hiz) "Output, channel C", 13 OUTB (hiz) "Output, channel B", 14 OUTA (hiz) "Output, channel A", 15 GND2 (power) "Ground connection for VCC2", 16 VCC2 (power) "Power supply, VCC2"

## ISO7640FMDWR
designator U?
150 Mbps 6 kVpk Low Power Quad Channels, Digital Isolator, 2.7 V / 3.3 V / 5 V, -40 to +125 degC, 16-pin SOIC (DW), Green (RoHS & no Sb/Br); Manufacturer: Texas Instruments; PartNumber: ISO7640FMDWR; Datarate(Mbps): 150; Input Noise Filter: None; Insulation Rating(VRMS): 5000; Prop Delay(Max)(ns): 10.5; Rating: Catalog; Supply Voltage(s)(V): 2.7, 3.3, 5; TTL/CMOS Input Threshold: TTL; DatasheetVersion: SLLSE89C; PackageVersion: 4040000-2/G, 01/2011; PackageReference: DW0016A; PackageDescription: 16-Pin Plastic Small Outline, Body 10.30 x 7.50 mm, Pitch 1.27 mm; Supplier 1: Digi-Key; Supplier Part Number 1: ISO7640FMDWR-ND; Supplier 2: Mouser; Supplier Part Number 2: 595-ISO7640FMDWR; Eco-Plan: Green (RoHS & no Sb/Br); Fail Safe: Low; SubFamily: Isolator; Thermal Shutdown: No; MountType: SMT; Code_JEDEC: MS-013; ComponentLink1Description: Manufacturer URL; ComponentLink1URL: http://www.ti.com/; ComponentLink2Description: Datasheet; ComponentLink2URL: http://www.ti.com/general/docs/lit/getliterature.tsp?genericPartNumber=ISO7640FM&fileType=pdf; ComponentLink3Description: Package Specification; ComponentLink3URL: http://www.ti.com/litv/pdf/msoi003g; ComponentLink4Description: SamplesURL; ComponentLink4URL: http://www.ti.com/product/iso7640fm#samples
footprint DW0016A_N (SOIC, 16-Leads, Body 10.5x7.6mm, Pitch 1.27mm, IPC Medium Density)
footprint DW0016A_L (SOIC, 16-Leads, Body 10.5x7.6mm, Pitch 1.27mm, IPC High Density)
footprint DW0016A_M (SOIC, 16-Leads, Body 10.5x7.6mm, Pitch 1.27mm, IPC Low Density)
pins: 1 VCC1 (power) "Power supply, VCC1", 2 GND1 (power) "Ground connection for VCC1", 3 INA (in) "Input, channel A", 4 INB (in) "Input, channel B", 5 INC (in) "Input, channel C", 6 IND (in) "Input, channel D", 7 NC "No Connect pins are floating with no internal connection", 8 GND1 (power) "Ground connection for VCC1", 9 GND2 (power) "Ground connection for VCC2", 10 EN (in) "Enables(when input is High or Open)or Disables(when input is Low) OUTA,OUTB,OUTC and OUTD of ISO7640", 11 OUTD (hiz) "Output, channel D", 12 OUTC (hiz) "Output, channel C", 13 OUTB (hiz) "Output, channel B", 14 OUTA (hiz) "Output, channel A", 15 GND2 (power) "Ground connection for VCC2", 16 VCC2 (power) "Power supply, VCC2"